# EAGLE library part DERFMEGA128-22M00 (library deRFmodules)
deRFmega128 IEEE 802.15.4 Low Power Wireless Radio Module Microcontroller: Atmel ATmega128RFA1 Transceiver: integrated Manufacturer: dresden elektronik ingenieurtechnik gmbh Website: http://www.dresden-elektronik.de
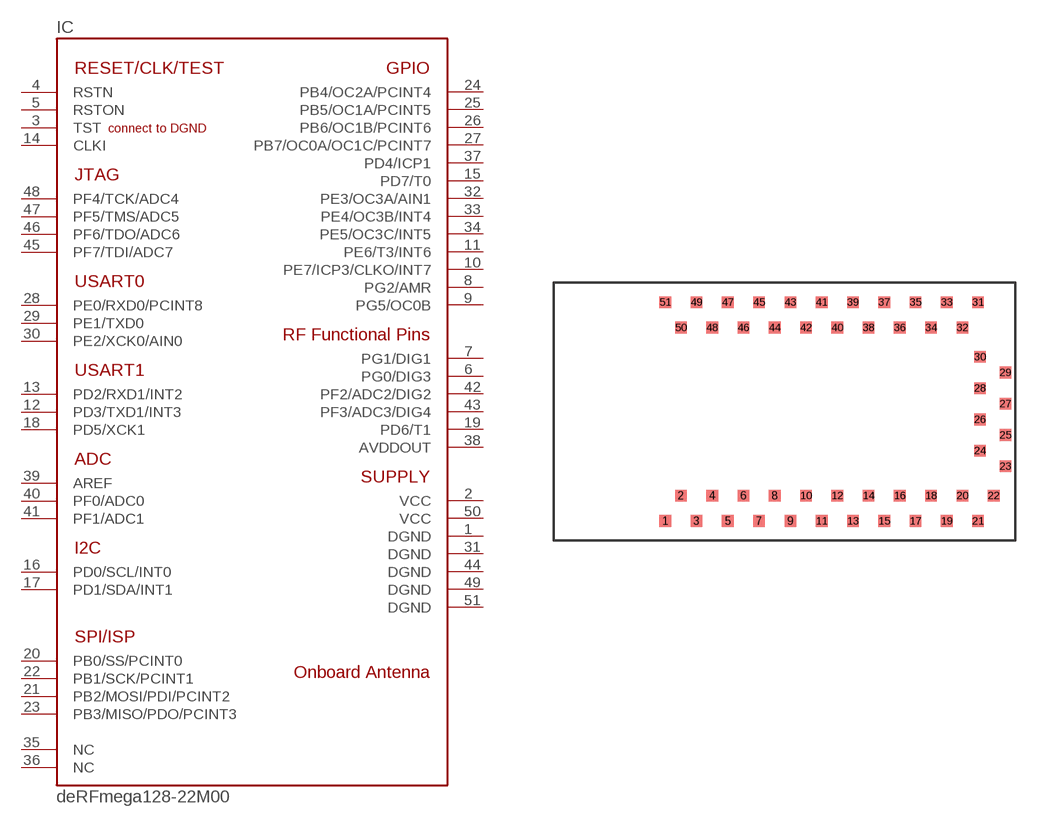
[diagram p2: symbol with the pads of A-M00; footprint A-M00]

Designator prefix IC

## DERFMEGA128-22M00  [A-M00]
1  DGND  sup
2  VCC  sup
3  TST  in
4  RSTN  in
5  RSTON  out
6  PG0/DIG3
7  PG1/DIG1
8  PG2/AMR
9  PG5/OC0B
10  PE7/ICP3/CLKO/INT7
11  PE6/T3/INT6
12  PD3/TXD1/INT3
13  PD2/RXD1/INT2
14  CLKI  in
15  PD7/T0
16  PD0/SCL/INT0
17  PD1/SDA/INT1
18  PD5/XCK1
19  PD6/T1
20  PB0/SS/PCINT0
21  PB2/MOSI/PDI/PCINT2
22  PB1/SCK/PCINT1
23  PB3/MISO/PDO/PCINT3
24  PB4/OC2A/PCINT4
25  PB5/OC1A/PCINT5
26  PB6/OC1B/PCINT6
27  PB7/OC0A/OC1C/PCINT7
28  PE0/RXD0/PCINT8
29  PE1/TXD0
30  PE2/XCK0/AIN0
31  DGND  sup
32  PE3/OC3A/AIN1
33  PE4/OC3B/INT4
34  PE5/OC3C/INT5
35  NC  nc
36  NC  nc
37  PD4/ICP1
38  AVDDOUT  out
39  AREF
40  PF0/ADC0
41  PF1/ADC1
42  PF2/ADC2/DIG2
43  PF3/ADC3/DIG4
44  DGND  sup
45  PF7/TDI/ADC7
46  PF6/TDO/ADC6
47  PF5/TMS/ADC5
48  PF4/TCK/ADC4
49  DGND  sup
50  VCC  sup
51  DGND  sup

## Footprint A-M00 (pad centres in mm)
51pin LGA package, pitch 0.8mm
smd 0.6 x 0.6: 1 -6.1,-5.6; 2 -5.3,-4.3; 3 -4.5,-5.6; 4 -3.7,-4.3; 5 -2.9,-5.6; 6 -2.1,-4.3; 7 -1.3,-5.6; 8 -0.5,-4.3; 9 0.3,-5.6; 10 1.1,-4.3; 11 1.9,-5.6; 12 2.7,-4.3; 13 3.5,-5.6; 14 4.3,-4.3; 15 5.1,-5.6; 16 5.9,-4.3; 17 6.7,-5.6; 18 7.5,-4.3; 19 8.3,-5.6; 20 9.1,-4.3; 21 9.9,-5.6; 22 10.7,-4.3; 23 11.3,-2.8; 24 10,-2; 25 11.3,-1.2; 26 10,-0.4; 27 11.3,0.4; 28 10,1.2; 29 11.3,2; 30 10,2.8; 31 9.9,5.6; 32 9.1,4.3; 33 8.3,5.6; 34 7.5,4.3; 35 6.7,5.6; 36 5.9,4.3; 37 5.1,5.6; 38 4.3,4.3; 39 3.5,5.6; 40 2.7,4.3; 41 1.9,5.6; 42 1.1,4.3; 43 0.3,5.6; 44 -0.5,4.3; 45 -1.3,5.6; 46 -2.1,4.3; 47 -2.9,5.6; 48 -3.7,4.3; 49 -4.5,5.6; 50 -5.3,4.3; 51 -6.1,5.6